# Altium footprint library Fedor's_pcb.PcbLib: 174 footprints (part 14 of 14)
Each footprint in its own frame and in the unit in brackets; x right, y up, seen from the top. Pads: shape width x height; smd on the part's side, far side on the other; paste and mask are expansions set on the pad; w line width, h text height; cw(c..) or ccw(c..) is an arc to the next point about the centre after c.
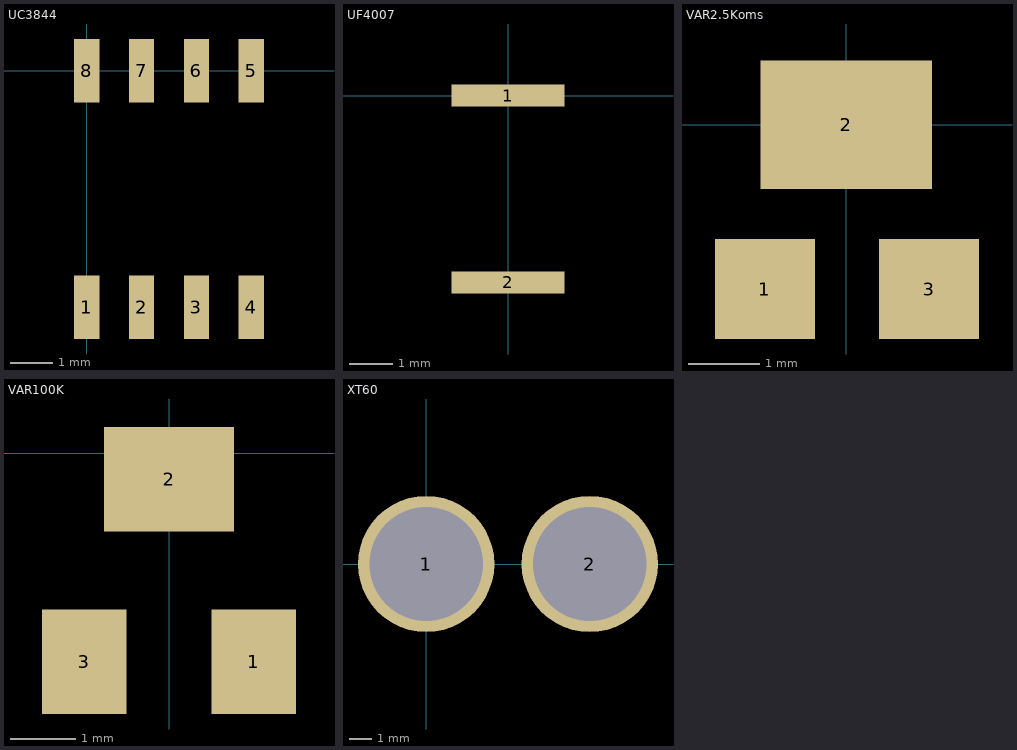
[diagram p13: the footprints below, top view; thin cyan lines are the x and y axes]

## UC3844 [mm]
pads (8):
  rect 0.6x1.5 smd mask+0.05: 1(0,-5.6) 2(1.3,-5.6) 3(2.6,-5.6) 4(3.9,-5.6) 5(3.9,0) 6(2.6,0) 7(1.3,0) 8(0,0)
3D body "UC3845.stp": height 1.4, standoff 0, extent -0.5,-5.575 4.4,-0.025

## UF4007 [mm]
pads (2):
  rect 2.6x0.5 smd mask+0.05: 1(0,0) 2(0,-4.3)
3D body "UF4007.stp": height 2.57, standoff -0.03, extent -1.071,-4.775 1.529,0.225

## VAR2.5Koms [mm]
pads (3):
  rect 1.4x1.4 smd mask+0.05: 1(-1.14,-2.3) 3(1.16,-2.3)
  rect 2.4x1.8 smd mask+0.05: 2(0,0)
3D body "ПеременныйРезистор.stp": height 5.3, standoff 0, extent -2.4,-3.179 2.4,0.863

## VAR100K [mm] "PVG5A104C03R00, (100К 0.25W SMD), Резистор переменный керметный 100кОм +10% 0.25Вт (4.8х3.9х5.3)мм SMD. https://www.chipdip.ru/product0/8025007601"
pads (3):
  rect 1.3x1.6 smd mask+0.05: 1(1.3,-3.2) 3(-1.3,-3.2)
  rect 2x1.6 smd mask+0.05: 2(0,-0.4)
3D body "ПеременныйРезистор.stp": height 5.3, standoff 0, extent -2.4,-3.636 2.4,0.406

## XT60 [mm]
pads (2):
  round 6 hole 5: 1(0,0) 2(7.2,0)
3D body "User Library-XT60 female.step": height 17, standoff -5.2, extent -4.04,-4.209 11.86,3.941